# EAGLE library part 691411510011 (library Wurth_Connectors_WR-TBL Spring Clamp)
WR-TBL Serie 4115 - 5.08 mm Screwless Horizontal Entry KIND PROPERTIES Pitch 5.08 mm MATERIAL PROPERTIES Insulator Material PA66 Insulator Flammability Rating UL94 V-0 Contact Material INOX Steel Contact Type Stamped Wire Guard Material Copper Alloy GENERAL INFORMATION Operating Temperature -30 up to +120 °C Compliance ROHS & Reach ELECTRICAL PROPERTIES IR UL 10 A IR VDE 10 A Working Voltage [UL] 300 V (AC) Working Voltage [VDE] 250 V (AC) Withstanding Voltage [UL] 1600 V (AC) Withstanding Voltage [VDE] 2000 V (AC) Contact Resistance 20 mΩ Mechanical Properties Wire Strip Length 10 Wire Properties Solid Wire Section (AWG) 16 to 30 (AWG) Solid Wire Section (Metric) 1.31 to 0.0509 (mm²) Stranded Wire Section (AWG) 16 to 30 (AWG) Stranded Wire Section (Metric) 1.31 to 0.0509 (mm²) CERTIFICATION UL Approval E150931 VDE Approval 40021396 Packaging Properties Packaging Box <https://www.we-online.com/catalog/media/o32955v209%20Family_Con_TBL_Screwless_508_6914115100xx_pf2.jpg> Details see: https://www.we-online.com/catalog/en/TBL_5_08_4115_SCREWLESS_HORIZONTAL_ENTRY_6914115100xx/ Updated by Ella Wu 2019-12-31 2019(C) Wurth Elektronik
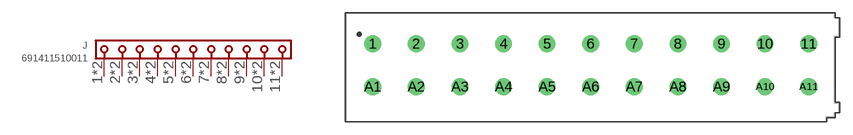
[diagram p53: symbol with the pads of 691411510011; footprint 691411510011]

Designator prefix J

## 691411510011 (DATASHEET-URL: https://www.we-online.com/redexpert/spec/691411510011?ae; IR-UL: 10A; IR-VDE: 10A; MOUNT: THT; PART-NUMBER: 691411510011; PINS: 11; PITCH: 5.08mm; TYPE: Horizontal; VALUE: 691411510011; WIRE: 16 to 30 (AWG) 1.31 to 0.0509 (mm²); WORKING-VOLTAGE-UL: 300V (AC); WORKING-VOLTAGE-VDE: 250V (AC))  [691411510011]
1  1  pas
2  2  pas
3  3  pas
4  4  pas
5  5  pas
6  6  pas
7  7  pas
8  8  pas
9  9  pas
10  10  pas
11  11  pas
A1  1  pas
A2  2  pas
A3  3  pas
A4  4  pas
A5  5  pas
A6  6  pas
A7  7  pas
A8  8  pas
A9  9  pas
A10  10  pas
A11  11  pas

## Footprint 691411510011 (pad centres in mm)
WR-TBL Serie 4115 - 5.08 mm Screwless Horizontal Entry Max Height = 13.9mm , Pitch 5.08mm , 11pins
drill 1.3: 1 -25.4,2.5; 2 -20.32,2.5; 3 -15.24,2.5; 4 -10.16,2.5; 5 -5.08,2.5; 6 0,2.5; 7 5.08,2.5; 8 10.16,2.5; 9 15.24,2.5; 10 20.32,2.5; 11 25.4,2.5; A1 -25.4,-2.5; A2 -20.32,-2.5; A3 -15.24,-2.5; A4 -10.16,-2.5; A5 -5.08,-2.5; A6 0,-2.5; A7 5.08,-2.5; A8 10.16,-2.5; A9 15.24,-2.5; A10 20.32,-2.5; A11 25.4,-2.5